# Altium footprint library 双发双收VPX_V1.1.PcbLib: 33 footprints (part 1 of 3)
Each footprint in its own frame and in the unit in brackets; x right, y up, seen from the top. Pads: shape width x height; smd on the part's side, far side on the other; paste and mask are expansions set on the pad; w line width, h text height; cw(c..) or ccw(c..) is an arc to the next point about the centre after c.
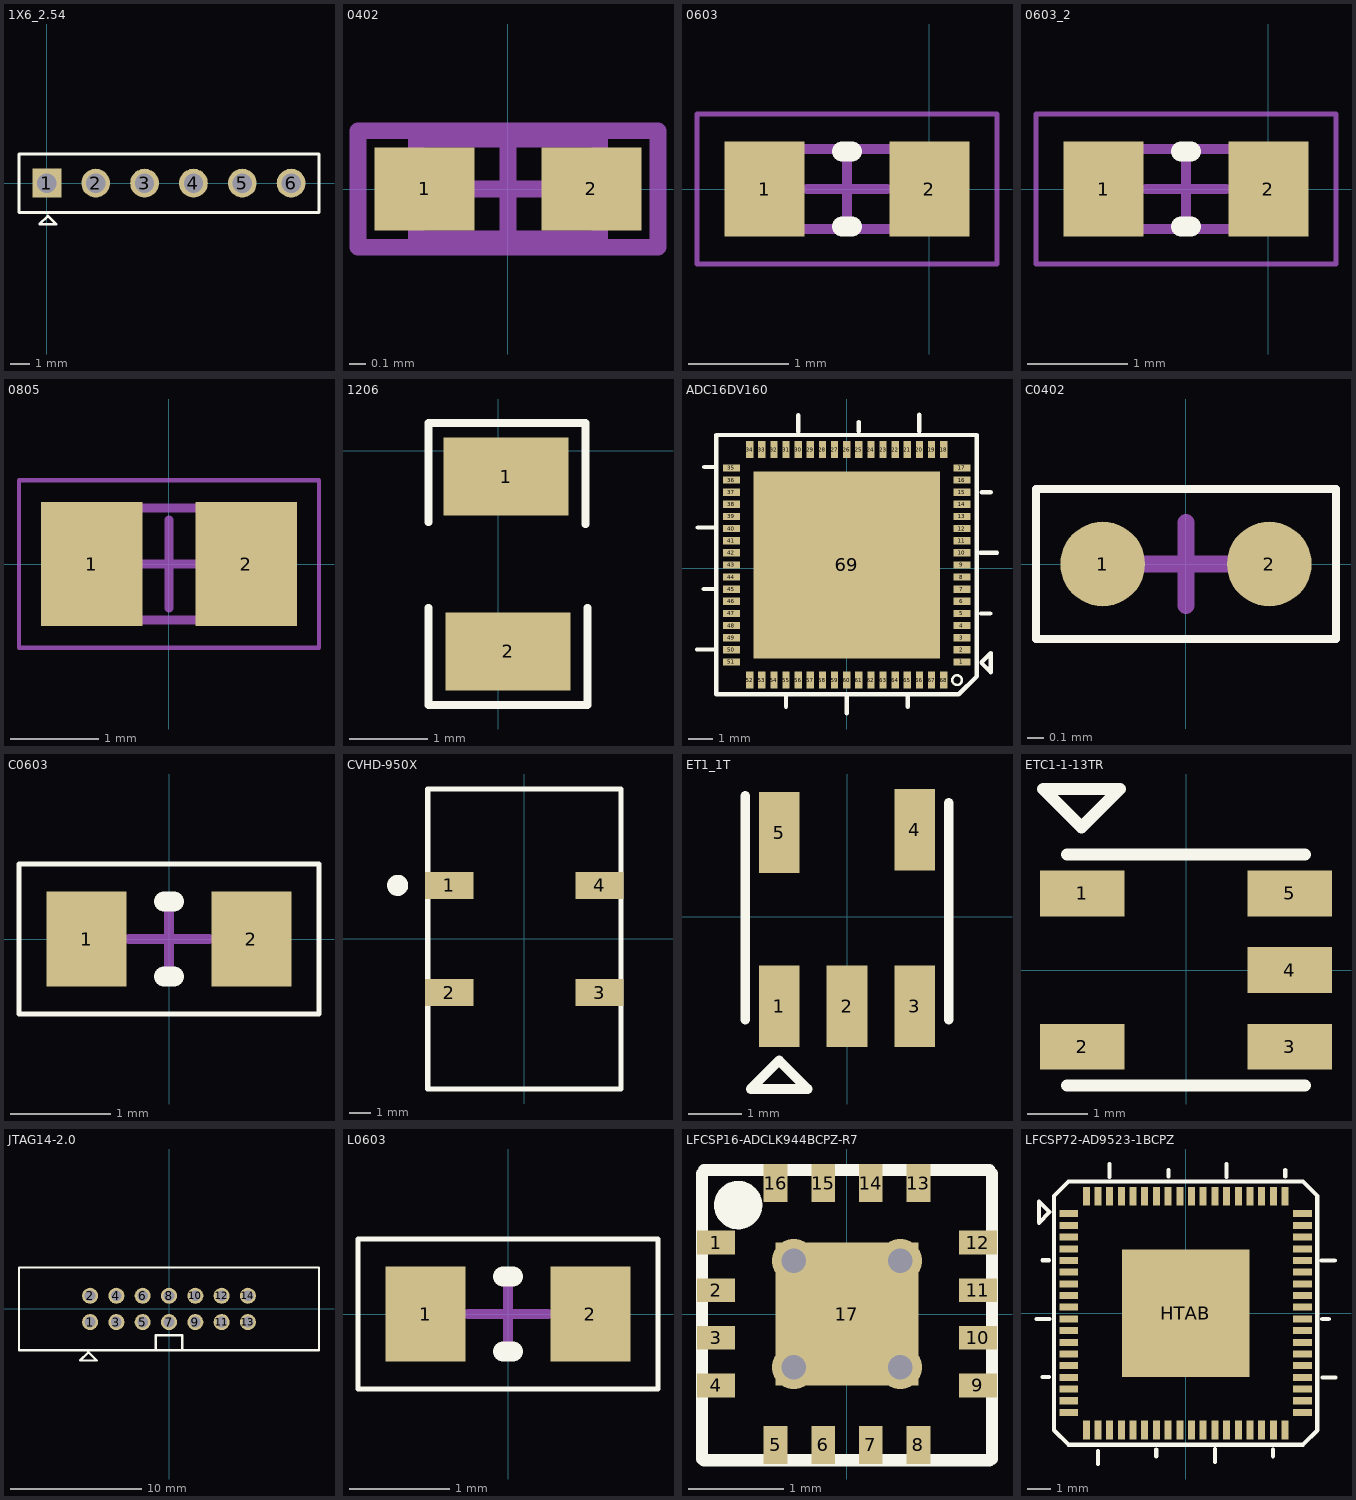
[diagram p0: the footprints below, top view; thin cyan lines are the x and y axes]

## 1X6_2.54 [mm]
pads (6):
  rect 1.5x1.5 hole 1: 1(0,0)
  round 1.5 hole 1: 2(2.54,0) 3(5.08,0) 4(7.62,0) 5(10.16,0) 6(12.7,0)
Top Overlay:
  lines w0.127: -0.381,-2.134 0.483,-2.134 0.051,-1.702 -0.381,-2.134
  lines w0.152: -1.448,-1.524 -1.448,1.524 14.148,1.524 14.148,-1.524 -1.448,-1.524

## 0402 [mm] "Chip Capacitor, Body 1.0x0.5mm, IPC High Density"
height 1.3
pads (2):
  rect 0.6x0.5 smd mask+0.02: 1(-0.5,0) 2(0.5,0)
Mechanical 13:
  lines w0.1: -0.55,-0.3 0.55,-0.3 0.55,0.3 -0.55,0.3 -0.55,-0.3
Mechanical 15:
  lines w0.1: -0.3,0 0.3,0 ; 0,-0.3 0,0.3 ; -0.9,-0.35 0.9,-0.35 0.9,0.35 -0.9,0.35 -0.9,-0.35
3D body: height 1.3, standoff 0, extent -0.55,-0.3 0.55,0.3

## 0603 [mm]
pads (2):
  rect 0.8x0.95 smd: 1(-1.65,0) 2(0,0)
Top Overlay:
  lines w0.2: -0.875,-0.375 -0.775,-0.375 ; -0.875,0.375 -0.775,0.375
Mechanical 13:
  lines w0.1: -1.625,-0.4 -0.025,-0.4 -0.025,0.4 -1.625,0.4 -1.625,-0.4
Mechanical 15:
  lines w0.05: -2.325,-0.75 0.675,-0.75 0.675,0.75 -2.325,0.75 -2.325,-0.75
  lines w0.1: -1.225,0 -0.425,0 ; -0.825,-0.4 -0.825,0.4
3D body: height 0.5, standoff 0, extent -0.325,-0.4 -0.025,0.4
3D body: height 0.5, standoff 0, extent -1.625,-0.4 -1.325,0.4
3D body: height 0.5, standoff 0, extent -1.325,-0.4 -0.325,0.4

## 0603_2 [mm]
pads (2):
  rect 0.8x0.95 smd: 1(-1.65,0) 2(0,0)
Top Overlay:
  lines w0.2: -0.875,-0.375 -0.775,-0.375 ; -0.875,0.375 -0.775,0.375
Mechanical 13:
  lines w0.1: -1.625,-0.4 -0.025,-0.4 -0.025,0.4 -1.625,0.4 -1.625,-0.4
Mechanical 15:
  lines w0.05: -2.325,-0.75 0.675,-0.75 0.675,0.75 -2.325,0.75 -2.325,-0.75
  lines w0.1: -1.225,0 -0.425,0 ; -0.825,-0.4 -0.825,0.4
3D body: height 0.5, standoff 0, extent -0.325,-0.4 -0.025,0.4
3D body: height 0.5, standoff 0, extent -1.625,-0.4 -1.325,0.4
3D body: height 0.5, standoff 0, extent -1.325,-0.4 -0.325,0.4

## 0805 [mm] "Chip Capacitor, 2-Leads, Body 2.00x1.27mm, IPC Medium Density"
height 1.25
pads (2):
  rect 1.15x1.4 smd: 1(-0.875,0) 2(0.875,0)
Mechanical 13:
  lines w0.1: -1,-0.635 1,-0.635 1,0.635 -1,0.635 -1,-0.635
Mechanical 15:
  lines w0.05: -1.7,-0.95 1.7,-0.95 1.7,0.95 -1.7,0.95 -1.7,-0.95
  lines w0.1: -0.5,0 0.5,0 ; 0,-0.5 0,0.5
3D body: height 1.25, standoff 0, extent 0.55,-0.635 1,0.635
3D body: height 1.25, standoff 0, extent -1,-0.635 -0.55,0.635
3D body: height 1.25, standoff 0, extent -0.55,-0.635 0.55,0.635

## 1206 [mm]
pads (2):
  rect 1.6x1 smd: 1(0.102,-0.33) 2(0.127,-2.565)
Top Overlay:
  lines w0.1: -0.889,-2.007 -0.889,-3.251 1.143,-3.251 1.143,-2.007 ; -0.889,-0.914 -0.889,0.356 1.118,0.356 1.118,-0.94

## ADC16DV160 [mm]
height 1.2
pads (69):
  rect 0.7x0.3 smd: 1(4.75,-3.873) 2(4.75,-3.373) 3(4.75,-2.873) 4(4.75,-2.373) 5(4.75,-1.873) 6(4.75,-1.373) 7(4.75,-0.873) 8(4.75,-0.373) 9(4.75,0.127) 10(4.75,0.627) 11(4.75,1.127) 12(4.75,1.627) 13(4.75,2.127) 14(4.75,2.627) 15(4.75,3.127) 16(4.75,3.627) 17(4.75,4.127) 35(-4.75,4.127) 36(-4.75,3.627) 37(-4.75,3.127) 38(-4.75,2.627) 39(-4.75,2.127) 40(-4.75,1.627) 41(-4.75,1.127) 42(-4.75,0.627) 43(-4.75,0.127) 44(-4.75,-0.373) 45(-4.75,-0.873) 46(-4.75,-1.373) 47(-4.75,-1.873) 48(-4.75,-2.373) 49(-4.75,-2.873) 50(-4.75,-3.373) 51(-4.75,-3.873)
  rect 0.3x0.7 smd: 18(4,4.877) 19(3.5,4.877) 20(3,4.877) 21(2.5,4.877) 22(2,4.877) 23(1.5,4.877) 24(1,4.877) 25(0.5,4.877) 26(0,4.877) 27(-0.5,4.877) 28(-1,4.877) 29(-1.5,4.877) 30(-2,4.877) 31(-2.5,4.877) 32(-3,4.877) 33(-3.5,4.877) 34(-4,4.877) 52(-4,-4.623) 53(-3.5,-4.623) 54(-3,-4.623) 55(-2.5,-4.623) 56(-2,-4.623) 57(-1.5,-4.623) 58(-1,-4.623) 59(-0.5,-4.623) 60(0,-4.623) 61(0.5,-4.623) 62(1,-4.623) 63(1.5,-4.623) 64(2,-4.623) 65(2.5,-4.623) 66(3,-4.623) 67(3.5,-4.623) 68(4,-4.623)
  rect 7.7x7.7 smd: 69(0,0.127)
Top Overlay:
  circle w0.1: c4.55,-4.623 r0.2
  lines w0.178: -6.172,-3.362 -5.486,-3.362 ; -6.147,1.668 -5.461,1.668 ; -5.893,-0.864 -5.512,-0.864 ; -5.867,4.166 -5.486,4.166 ; -2.5,-5.715 -2.5,-5.334 ; -1.998,5.613 -1.998,6.299 ; -0.002,-5.994 -0.002,-5.309 ; 0.5,5.639 0.5,6.02 ; 2.515,-5.715 2.515,-5.334 ; 2.988,5.639 2.988,6.325 ; 5.512,0.625 6.198,0.625 ; 5.537,-1.873 5.918,-1.873 ; 5.563,-3.912 5.944,-4.293 5.944,-3.505 5.563,-3.886 ; 5.563,3.124 5.944,3.124 ; -5.385,-5.207 4.623,-5.207 5.369,-4.461 5.369,5.486 -5.385,5.486 -5.385,-5.207

## C0402 [mil]
height 11.81
pads (2):
  round 20 smd: 1(-19.68,0) 2(19.68,0)
Top Overlay:
  lines w1.97: -35.43,-17.72 35.43,-17.72 35.43,17.72 -35.43,17.72 -35.43,-17.72
Mechanical 15:
  lines w1.97: -35.43,-17.72 35.43,-17.72 35.43,17.72 -35.43,17.72 -35.43,-17.72
  lines w3.94: -9.84,0 9.84,0 ; 0,-9.84 0,9.84

## C0603 [mm]
height 1.2
pads (2):
  rect 0.8x0.95 smd: 1(-0.825,0) 2(0.825,0)
Top Overlay:
  lines w0.05: -1.5,-0.75 1.5,-0.75 1.5,0.75 -1.5,0.75 -1.5,-0.75
  lines w0.2: -0.05,-0.375 0.05,-0.375 ; -0.05,0.375 0.05,0.375
Mechanical 15:
  lines w0.1: -0.4,0 0.4,0 ; 0,-0.4 0,0.4

## CVHD-950X [mm]
pads (4):
  rect 2.28x1.27 smd: 1(-3.555,2.54) 2(-3.555,-2.54) 3(3.555,-2.54) 4(3.555,2.54)
Top Overlay:
  circle w0.5: c-6,2.54 r0.25
  lines w0.254: -4.57,-7.1 -4.57,7.1 4.57,7.1 4.57,-7.1 -4.57,-7.1

## ET1_1T [mil]
height 47.24
pads (5):
  rect 30x60 smd: 1(-50,-66) 2(0,-66) 3(50,-66) 4(50,64) 5(-50,61.95)
Top Overlay:
  lines w7: -75,-76 -75,-66 -75,-31 -75,29 -75,89 ; 75,-76 75,84 ; -71,-127 -29,-127 -50,-106 -71,-127

## ETC1-1-13TR [mm]
height 3.2
pads (5):
  rect 1.4x0.76 smd: 1(-1.715,1.27) 2(-1.715,-1.27) 3(1.715,-1.27) 4(1.715,0) 5(1.715,1.27)
Top Overlay:
  lines w0.2: -1.97,-1.915 1.97,-1.915 ; -1.97,1.915 1.97,1.915 ; -2.365,3 -1.73,2.365 -1.095,3 -2.365,3

## JTAG14-2.0 [mil]
height 39.37
pads (14):
  round 48 hole 32: 1(-236.22,-39.37) 2(-236.22,39.37) 3(-157.48,-39.37) 4(-157.48,39.37) 5(-78.74,-39.37) 6(-78.74,39.37) 7(0,-39.37) 8(0,39.37) 9(78.74,-39.37) 10(78.74,39.37) 11(157.48,-39.37) 12(157.48,39.37) 13(236.22,-39.37) 14(236.22,39.37)
Top Overlay:
  lines w7: -39.37,-124.02 -39.37,-78.74 39.37,-78.74 39.37,-124.02 ; -448.82,-124.02 -448.82,124.02 448.82,124.02 448.82,-124.02 -448.82,-124.02 ; -266.22,-154.37 -216.22,-154.37 -241.22,-129.37 -266.22,-154.37

## L0603 [mm]
height 1.2
pads (2):
  rect 0.8x0.95 smd: 1(-0.825,0) 2(0.825,0)
Top Overlay:
  lines w0.05: -1.5,-0.75 -1.5,0.75 1.5,0.75 1.5,-0.75 -1.5,-0.75
  lines w0.2: -0.05,-0.375 0.05,-0.375 ; -0.05,0.375 0.05,0.375
Mechanical 15:
  lines w0.1: -0.4,0 0.4,0 ; 0,-0.4 0,0.4

## LFCSP16-ADCLK944BCPZ-R7 [mm]
pads (17):
  rect 0.4x0.25 smd: 1(-1.375,0.75) 2(-1.375,0.25) 3(-1.375,-0.25) 4(-1.375,-0.75) 9(1.375,-0.75) 10(1.375,-0.25) 11(1.375,0.25) 12(1.375,0.75)
  rect 0.25x0.4 smd: 5(-0.75,-1.375) 6(-0.25,-1.375) 7(0.25,-1.375) 8(0.75,-1.375) 13(0.75,1.375) 14(0.25,1.375) 15(-0.25,1.375) 16(-0.75,1.375)
  rect 1.5x1.5 smd: 17(0,0)
via -0.559,-0.559 diameter 0.457 hole 0.254
via 0.559,-0.559 diameter 0.457 hole 0.254
via 0.559,0.559 diameter 0.457 hole 0.254
via -0.559,0.559 diameter 0.457 hole 0.254
Top Overlay:
  circle w0.254: c-1.143,1.143 r0.127
  lines w0.127: -1.524,-1.524 -1.524,1.476 ; -1.502,-1.536 1.498,-1.536 ; -1.502,1.512 1.498,1.512 ; 1.524,-1.524 1.524,1.476

## LFCSP72-AD9523-1BCPZ [mm]
pads (73):
  rect 0.8x0.3 smd: 1(-5,4.25) 2(-5,3.75) 3(-5,3.25) 4(-5,2.75) 5(-5,2.25) 6(-5,1.75) 7(-5,1.25) 8(-5,0.75) 9(-5,0.25) 10(-5,-0.25) 11(-5,-0.75) 12(-5,-1.25) 13(-5,-1.75) 14(-5,-2.25) 15(-5,-2.75) 16(-5,-3.25) 17(-5,-3.75) 18(-5,-4.25) 37(5,-4.25) 38(5,-3.75) 39(5,-3.25) 40(5,-2.75) 41(5,-2.25) 42(5,-1.75) 43(5,-1.25) 44(5,-0.75) 45(5,-0.25) 46(5,0.25) 47(5,0.75) 48(5,1.25) 49(5,1.75) 50(5,2.25) 51(5,2.75) 52(5,3.25) 53(5,3.75) 54(5,4.25)
  rect 0.3x0.8 smd: 19(-4.25,-5) 20(-3.75,-5) 21(-3.25,-5) 22(-2.75,-5) 23(-2.25,-5) 24(-1.75,-5) 25(-1.25,-5) 26(-0.75,-5) 27(-0.25,-5) 28(0.25,-5) 29(0.75,-5) 30(1.25,-5) 31(1.75,-5) 32(2.25,-5) 33(2.75,-5) 34(3.25,-5) 35(3.75,-5) 36(4.25,-5) 55(4.25,5) 56(3.75,5) 57(3.25,5) 58(2.75,5) 59(2.25,5) 60(1.75,5) 61(1.25,5) 62(0.75,5) 63(0.25,5) 64(-0.25,5) 65(-0.75,5) 66(-1.25,5) 67(-1.75,5) 68(-2.25,5) 69(-2.75,5) 70(-3.25,5) 71(-3.75,5) 72(-4.25,5)
  rect 5.45x5.45 smd: HTAB(0,0)
Top Overlay:
  lines w0.178: -6.375,-0.254 -5.817,-0.254 ; -6.121,-2.739 -5.842,-2.739 ; -6.121,2.261 -5.842,2.261 ; -3.744,-6.455 -3.744,-5.897 ; -3.254,5.817 -3.254,6.375 ; -1.261,-6.121 -1.261,-5.842 ; -0.739,5.842 -0.739,6.121 ; 1.254,-6.375 1.254,-5.817 ; 1.746,5.817 1.746,6.375 ; 3.739,-6.121 3.739,-5.842 ; 4.261,5.842 4.261,6.121 ; 5.817,2.254 6.375,2.254 ; 5.842,-0.261 6.121,-0.261 ; 5.846,-2.754 6.405,-2.754 ; -6.274,3.861 -6.274,4.775 -5.817,4.318 -6.274,3.861 ; -5.63,-5.013 -5.63,5.013 -5.013,5.63 5.013,5.63 5.63,5.013 5.63,-5.013 5.013,-5.63 -5.013,-5.63 -5.63,-5.013